# EAGLE library part PMS7003 (library pmMeasureProject)
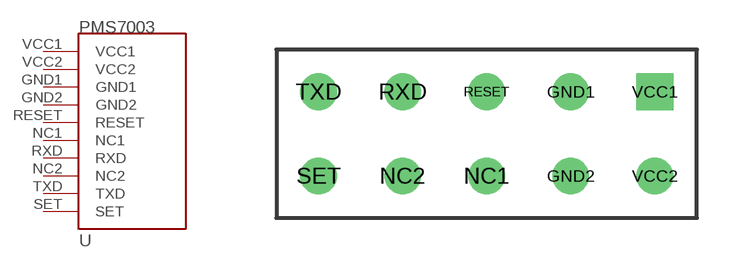
[diagram p0: symbol with the pads of PMS7003; footprint PMS7003]

Designator prefix -

## PMS7003  [PMS7003]
GND1  GND1
GND2  GND2
NC1  NC1
NC2  NC2
RESET  RESET
RXD  RXD
SET  SET
TXD  TXD
VCC1  VCC1
VCC2  VCC2

## Footprint PMS7003 (pad centres in mm)
Plantower PMS7003 Footprint
drill 0.6: GND1 2.54,2.54; GND2 2.54,0; NC1 0,0; NC2 -2.54,0; RESET 0,2.54; RXD -2.54,2.54; SET -5.08,0; TXD -5.08,2.54; VCC2 5.08,0
drill 0.6 square: VCC1 5.08,2.54